# Altium footprint library Servo_Control_Lib.PcbLib: 27 footprints (part 1 of 2)
Each footprint in its own frame and in the unit in brackets; x right, y up, seen from the top. Pads: shape width x height; smd on the part's side, far side on the other; paste and mask are expansions set on the pad; w line width, h text height; cw(c..) or ccw(c..) is an arc to the next point about the centre after c.
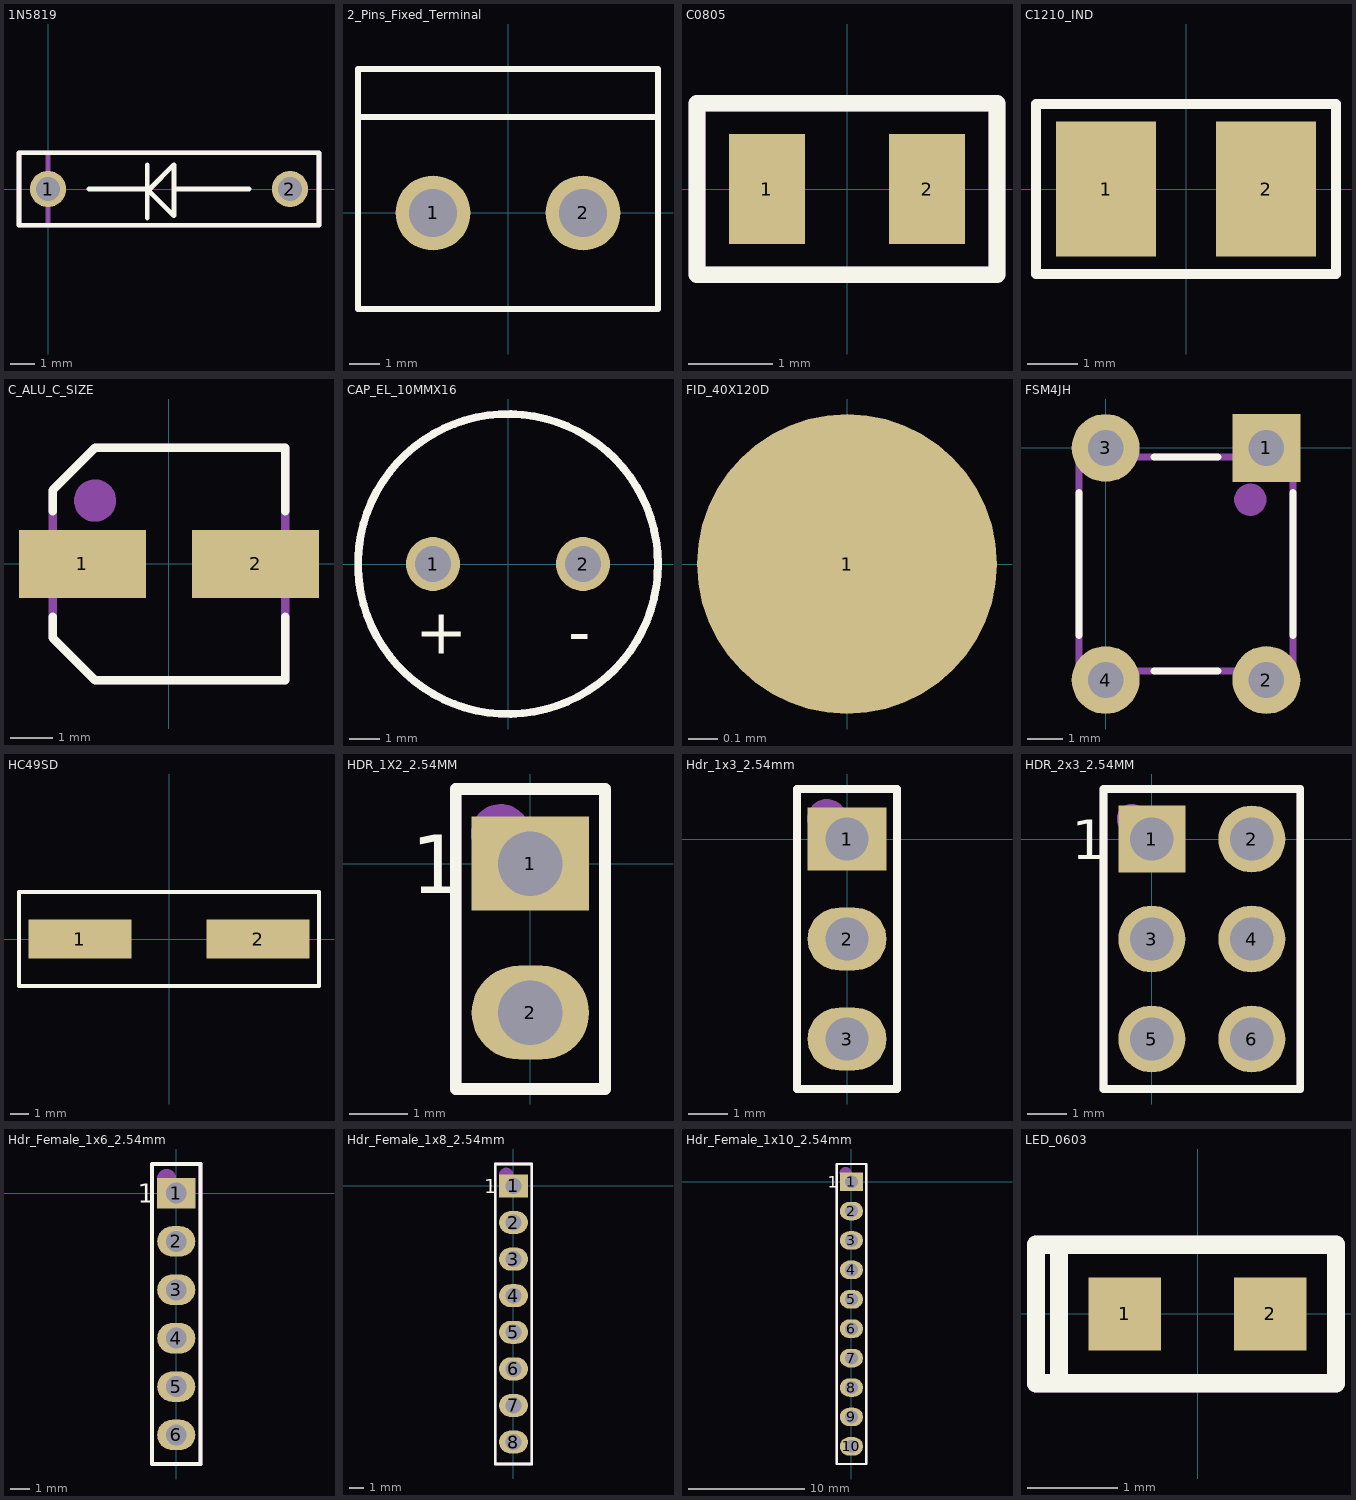
[diagram p0: the footprints below, top view; thin cyan lines are the x and y axes]

## 1N5819 [mm]
pads (2):
  round 1.5 hole 1: 1(0,0) 2(10,0)
Top Overlay:
  lines w0.2: 1.7,0 4.2,0 5.2,1 5.2,-0.4 5.2,-1.1 4.15,-0.05 ; 4.1,-1.2 4.1,1 ; 5.2,0 8.3,0 ; -1.2,-1.5 -1.2,1.5 11.2,1.5 11.2,-1.5 -1.2,-1.5
Mechanical 29:
  lines w0.2: 0,-1.5 0,1.5 ; -1.2,-1.5 -1.2,1.5 11.2,1.5 11.2,-1.5 -1.2,-1.5
  text ".Designator" at 2.6,-0.6 h1.52
3D body "DO-41 10mm.step": height 2.86, standoff -2.5, extent -0.43,-1.325 10.43,1.4

## 2_Pins_Fixed_Terminal [mm]
pads (2):
  round 2.5 hole 1.6: 1(-2.5,0) 2(2.5,0)
Top Overlay:
  lines w0.2: -5,3.2 5,3.2 ; -5,-3.2 5,-3.2 5,4.8 -5,4.8 -5,-3.2
Mechanical 29:
  lines w0.2: -5,3.2 5,3.2 ; -5,-3.2 -5,4.8 5,4.8 5,-3.2 -5,-3.2
  text ".Designator" at -2.2,-0.4 h1.52
3D body "Terminal-Screw-3A-2way.step": height 10.01, standoff -2.99, extent -5.6,-3 5,4.6

## C0805 [mm]
pads (2):
  rect 0.9x1.3 smd: 1(-0.95,0) 2(0.95,0)
Top Overlay:
  lines w0.2: -1.778,-1.016 1.778,-1.016 1.778,1.016 -1.778,1.016 -1.778,-1.016
Mechanical 29:
  lines w0.2: -1.778,-1.016 1.778,-1.016 1.778,1.016 -1.778,1.016 -1.778,-1.016
  text ".Designator" at -1.016,-0.254 h0.6
3D body "CAPC2012X95N EIA 0805.step": height 0.96, standoff 0.01, extent -1,-0.6 1,0.6
3D body "CAPC2012X95N EIA 0805.step": height 1.46, standoff 0.51, extent -1,-0.6 1,0.6

## C1210_IND [mm]
pads (2):
  rect 2x2.7 smd: 1(-1.6,0) 2(1.6,0)
Top Overlay:
  lines w0.2: -3,-1.7 3,-1.7 3,1.7 -3,1.7 -3,-1.7
Mechanical 29:
  lines w0.2: -3,-1.7 -3,1.7 3,1.7 3,-1.7 -3,-1.7
  text ".Designator" at -2,-0.4 h1
3D body: height 2.7, standoff 0, extent -1.3,-1.25 1.3,1.25
3D body: height 2.7, standoff 0, extent 1.3,-1.25 1.6,1.25
3D body: height 2.7, standoff 0, extent -1.6,-1.25 -1.3,1.25

## C_ALU_C_SIZE [mm]
pads (2):
  rect 3x1.6 smd: 1(-2.05,0) 2(2.05,0)
Top Overlay:
  lines w0.2: -2.75,-1.25 -2.75,-1.75 -1.75,-2.75 2.75,-2.75 2.75,-1.25 ; -2.75,1.25 -2.75,1.75 -1.75,2.75 2.75,2.75 2.75,1.25
Mechanical 29:
  circle w0.5: c-1.75,1.5 r0.25
  lines w0.2: -2.75,-1.75 -2.75,1.75 -1.75,2.75 2.75,2.75 2.75,-2.75 -1.75,-2.75 -2.75,-1.75
  text ".Designator" at -1.5,-0.75 h1.3
3D body "capacitor size C.step": height 5.41, standoff -0.01, extent -2.95,-2.65 2.95,2.65

## CAP_EL_10MMX16 [mm]
pads (2):
  round 1.8 hole 1.2: 1(-2.5,0) 2(2.5,0)
Top Overlay:
  circle w0.254: c0,0 r5
  text "+" at -3.1,-3 h1.52
  text "-" at 2,-3 h1.52
Mechanical 29:
  circle w0.254: c0,0 r5
  text "+" at -3,-0.7 h1.52
  text ".Designator" at 0.6,-3.1 h1.52
3D body "CapAluRadial_D100H160.STEP": height 17.5, standoff -3, extent -5.25,-5.15 5.25,5.35

## FID_40X120D [mil]
pads (1):
  round 40 smd paste-40 mask+40: 1(0,0)

## FSM4JH [mm]
pads (4):
  rect 1.9x1.9 hole 1: 1(4.5,0)
  round 1.9 hole 1: 2(4.5,-6.5) 3(0,0) 4(0,-6.5)
Top Overlay:
  lines w0.2: -0.75,-5.25 -0.75,-1.25 ; 1.35,-6.25 3.15,-6.25 ; 1.35,-0.25 3.15,-0.25 ; 5.25,-5.25 5.25,-1.25
Mechanical 29:
  circle w0.5: c4.05,-1.45 r0.2
  lines w0.2: -0.75,-6.25 -0.75,-0.25 5.25,-0.25 5.25,-6.25 -0.75,-6.25
  text ".Designator" at 0.55,-3.75 h1.6
3D body "FSM4JLH(1825910-5).step": height 5, standoff -3.51, extent -0.745,-7.148 5.245,0.65

## HC49SD [mm]
pads (2):
  rect 5.5x2.1 smd: 1(-4.75,0) 2(4.75,0)
Top Overlay:
  lines w0.2: -8,-2.5 8,-2.5 8,2.5 -8,2.5 -8,-2.5
Mechanical 29:
  lines w0.2: -8,-2.5 -8,2.5 8,2.5 8,-2.5 -8,-2.5
  text ".Designator" at -3,-0.7 h1.52
3D body "HC49US.STEP": height 4.2, standoff 0, extent -6.35,-2.3 6.35,2.4

## HDR_1X2_2.54MM [mm]
pads (2):
  rect 2x1.6 hole 1.1: 1(0,0)
  oval 2x1.6 hole 1.1: 2(0,-2.54)
Top Overlay:
  lines w0.2: -1.27,-3.84 -1.27,1.27 1.27,1.27 1.27,-3.84 -1.27,-3.84
  text "1" at -2.032,-0.508 h1
Mechanical 29:
  circle w0.5: c-0.508,0.508 r0.254
  lines w0.2: -1.27,-3.84 -1.27,1.27 1.27,1.27 1.27,-3.84 -1.27,-3.84
  text ".Designator" at 0.5,-2.84 h1.52
3D body "Header_Male_2Pin.STEP": height 8.54, standoff -3, extent -1.245,-3.81 1.245,1.27

## Hdr_1x3_2.54mm [mm]
pads (3):
  rect 2x1.6 hole 1.1: 1(0,0)
  oval 2x1.6 hole 1.1: 2(0,-2.54) 3(0,-5.08)
Top Overlay:
  lines w0.2: -1.27,-6.35 1.27,-6.35 1.27,1.27 -1.27,1.27 -1.27,-6.35
Mechanical 29:
  circle w0.5: c-0.508,0.508 r0.254
  lines w0.2: -1.27,-6.35 1.27,-6.35 1.27,1.27 -1.27,1.27 -1.27,-6.35
  text ".Designator" at 0.762,-3.81 h1.52
3D body "Header_Male_3Pin.STEP": height 8.54, standoff -3, extent -1.245,-6.35 1.245,1.27

## HDR_2x3_2.54MM [mm]
pads (6):
  rect 1.7x1.7 hole 1.1: 1(0,0)
  round 1.7 hole 1.1: 2(2.54,0) 3(0,-2.54) 4(2.54,-2.54) 5(0,-5.08) 6(2.54,-5.08)
Top Overlay:
  lines w0.2: -1.23,-6.35 -1.23,1.27 3.77,1.27 3.77,-6.35 -1.23,-6.35
  text "1" at -2.032,-0.508 h1
Mechanical 29:
  circle w0.508: c-0.508,0.508 r0.127
  lines w0.2: -1.23,-6.35 -1.23,1.27 3.77,1.27 3.77,-6.35 -1.23,-6.35
  text ".Designator" at 1.905,-3.683 h1.52
3D body "Header_Male_3Pin.STEP": height 8.54, standoff -3, extent -1.245,-6.35 1.245,1.27
3D body "Header_Male_3Pin.STEP": height 8.54, standoff -3, extent 1.295,-6.35 3.785,1.27

## Hdr_Female_1x6_2.54mm [mm]
pads (6):
  rect 2x1.6 hole 1.1: 1(0,0)
  oval 2x1.6 hole 1.1: 2(0,-2.54) 3(0,-5.08) 4(0,-7.62) 5(0,-10.16) 6(0,-12.7)
Top Overlay:
  lines w0.2: -1.27,-14.224 -1.27,1.524 1.27,1.524 1.27,-14.224 -1.27,-14.224
  text "1" at -2.032,-0.508 h1
Mechanical 29:
  circle w0.5: c-0.508,0.762 r0.254
  lines w0.2: -1.27,-14.224 -1.27,1.524 1.27,1.524 1.27,-14.224 -1.27,-14.224
  text ".Designator" at 0.762,-8.382 h1.52
3D body "m20-7820646_asm.stp": height 8.51, standoff -2.99, extent -1.25,-14.17 1.25,1.47

## Hdr_Female_1x8_2.54mm [mm]
pads (8):
  rect 2x1.6 hole 1.1: 1(0,0)
  oval 2x1.6 hole 1.1: 2(0,-2.54) 3(0,-5.08) 4(0,-7.62) 5(0,-10.16) 6(0,-12.7) 7(0,-15.24) 8(0,-17.78)
Top Overlay:
  lines w0.2: -1.27,-19.304 1.27,-19.304 1.27,1.524 -1.27,1.524 -1.27,-19.304
  text "1" at -2.032,-0.508 h1
Mechanical 29:
  circle w0.5: c-0.508,0.762 r0.254
  lines w0.2: -1.27,-19.304 1.27,-19.304 1.27,1.524 -1.27,1.524 -1.27,-19.304
  text ".Designator" at 0.762,-12.954 h1.52
3D body "m20-7820842_asm.stp": height 8.51, standoff -2.99, extent -1.25,-19.25 1.25,1.47

## Hdr_Female_1x10_2.54mm [mm]
pads (10):
  rect 2x1.6 hole 1.1: 1(0,0)
  oval 2x1.6 hole 1.1: 2(0,-2.54) 3(0,-5.08) 4(0,-7.62) 5(0,-10.16) 6(0,-12.7) 7(0,-15.24) 8(0,-17.78) 9(0,-20.32) 10(0,-22.86)
Top Overlay:
  lines w0.2: -1.27,-24.384 -1.27,1.524 1.27,1.524 1.27,-24.384 -1.27,-24.384
  text "1" at -2.032,-0.508 h1
Mechanical 29:
  circle w0.5: c-0.508,0.762 r0.254
  lines w0.2: -1.27,-24.384 -1.27,1.524 1.27,1.524 1.27,-24.384 -1.27,-24.384
  text ".Designator" at 0.762,-14.732 h1.52
3D body "m20-7821046_asm.stp": height 8.51, standoff -2.99, extent -1.25,-24.33 1.25,1.47

## LED_0603 [mm]
pads (2):
  rect 0.8x0.8 smd: 1(-0.8,0) 2(0.8,0)
Top Overlay:
  lines w0.2: -1.524,-0.762 -1.778,-0.762 -1.778,0.762 -1.524,0.762 ; -1.524,-0.762 -1.524,0.762 ; -1.524,-0.762 1.524,-0.762 1.524,0.762 -1.524,0.762
Mechanical 29:
  lines w0.2: -1.524,-0.762 -1.524,0.762 ; -1.778,-0.762 1.524,-0.762 1.524,0.762 -1.778,0.762 -1.778,-0.762
  text ".Designator" at -1.016,-0.254 h0.6
3D body "LED SMD 0603.step": height 0.65, standoff 0, extent -0.85,-0.4 0.85,0.4
3D body: height 0.66, standoff 0.5, extent -0.2,-0.2 0.2,0.2